# Altium schematic symbol library conn_header_2.54mm_st_smd.SchLib: 46 symbols
Pins are listed as number, name and electrical type; pins without a type are passive.

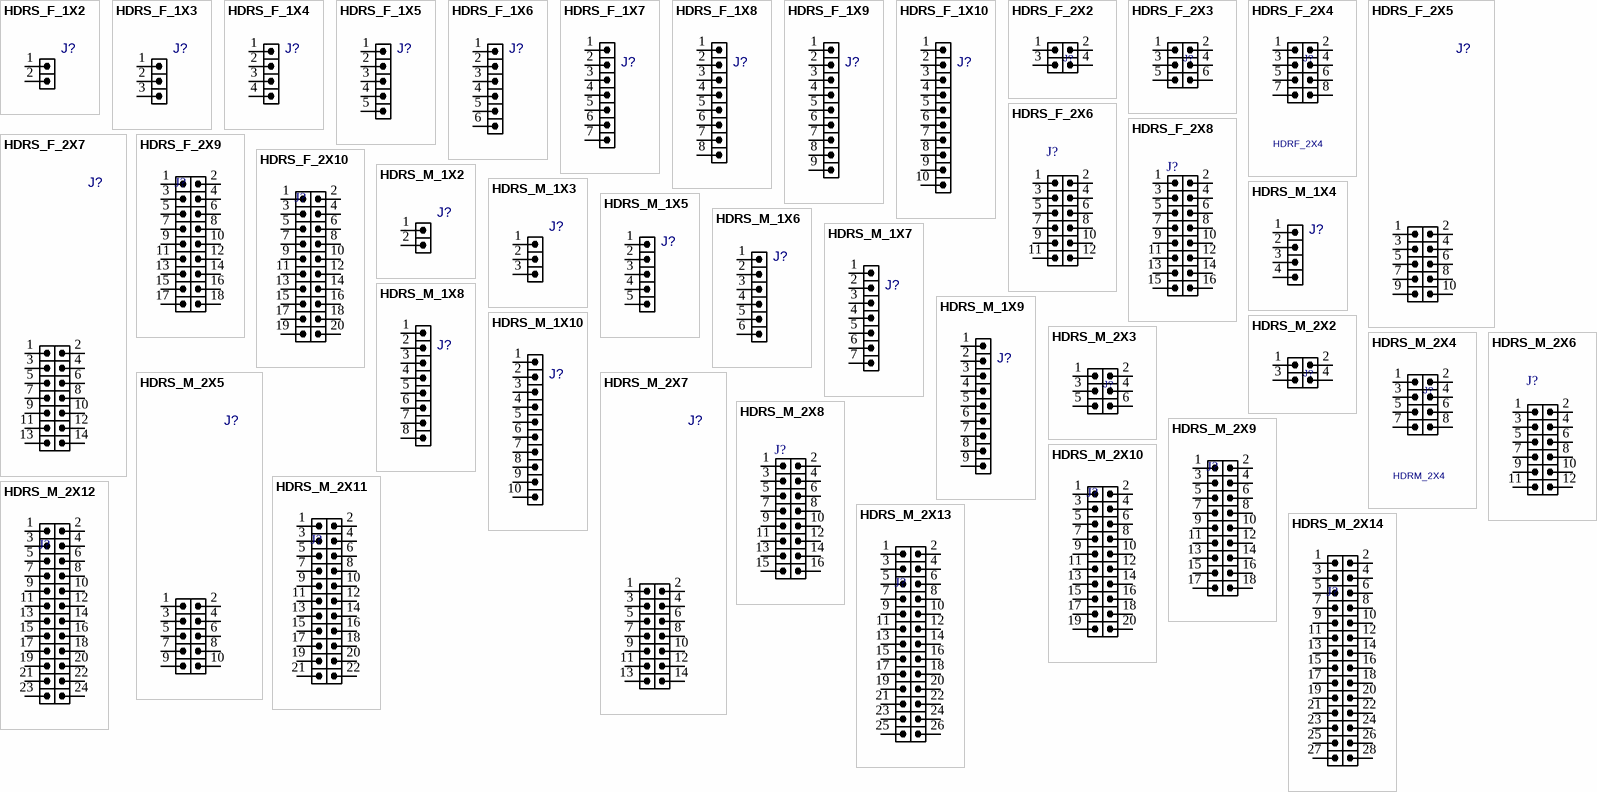
[diagram p0: symbols HDRS_F_1X2 to HDRS_M_2X14]

## HDRS_F_1X2
designator J?, comment HDRF2  (value not drawn)
CONN, HEADER, Female, pitch: 2.54mm, SMD; MANF: MOLEX; DESC: DESCRIPTION; ASSEMBLY: ASSEMBLY; PARAM: PARAM; PRICE: 0.5$; VALUE: HDRF2
footprint HDRS_F_1X2 (HEADER, 2.54mm pitch, straight, SMD)
pins: 1 P1, 2 P2

## HDRS_F_1X3
designator J?, comment HDRF3  (value not drawn)
CONN, HEADER, Female, pitch: 2.54mm, SMD; MANF: MOLEX; DESC: DESCRIPTION; ASSEMBLY: ASSEMBLY; PARAM: PARAM; PRICE: 0.5$; VALUE: HDRF3
footprint HDRS_F_1X3 (HEADER, 2.54mm pitch, straight, SMD)
pins: 1 P1, 2 P2, 3

## HDRS_F_1X4
designator J?, comment HDRF4  (value not drawn)
CONN, HEADER, Female, pitch: 2.54mm, SMD; MANF: MOLEX; DESC: DESCRIPTION; ASSEMBLY: ASSEMBLY; PARAM: PARAM; PRICE: 0.3$; VALUE: HDRF4
footprint HDRS_F_1X4 (HEADER, 2.54mm pitch, straight, SMD)
pins: 1, 2, 3, 4

## HDRS_F_1X5
designator J?, comment HDRF5  (value not drawn)
CONN, HEADER, Female, pitch: 2.54mm, SMD; MANF: Sullins; DESC: DESCRIPTION; ASSEMBLY: ASSEMBLY; PARAM: PARAM; PRICE: PRICE; VALUE: HDRF5
footprint HDRS_F_1X5 (HEADER, 2.54mm pitch, straight, SMD)
pins: 1, 2, 3, 4, 5

## HDRS_F_1X6
designator J?, comment HDRF6  (value not drawn)
CONN, HEADER, Female, pitch: 2.54mm, SMD; MANF: Sullins; DESC: DESCRIPTION; ASSEMBLY: ASSEMBLY; PARAM: PARAM; PRICE: PRICE; VALUE: HDRF6
footprint HDRS_F_1X6 (HEADER, 2.54mm pitch, straight, SMD)
pins: 1, 2, 3, 4, 5, 6

## HDRS_F_1X7
designator J?, comment HDRF7  (value not drawn)
CONN, HEADER, Female, pitch: 2.54mm, SMD; MANF: Sullins; DESC: DESCRIPTION; ASSEMBLY: ASSEMBLY; PARAM: PARAM; PRICE: PRICE; VALUE: HDRF7
footprint HDRS_F_1X7 (HEADER, 2.54mm pitch, straight, SMD)
pins: 1, 2, 3, 4, 5, 6, 7

## HDRS_F_1X8
designator J?, comment HDRF8  (value not drawn)
CONN, HEADER, Female, pitch: 2.54mm, SMD; MANF: Sullins; DESC: DESCRIPTION; ASSEMBLY: ASSEMBLY; PARAM: PARAM; PRICE: PRICE; VALUE: HDRF8
footprint HDRS_F_1X8 (HEADER, 2.54mm pitch, straight, SMD)
pins: 1, 2, 3, 4, 5, 6, 7, 8

## HDRS_F_1X9
designator J?, comment HDRF9  (value not drawn)
CONN, HEADER, Female, pitch: 2.54mm, SMD; MANF: Sullins; DESC: DESCRIPTION; ASSEMBLY: ASSEMBLY; PARAM: PARAM; PRICE: PRICE; VALUE: HDRF9
footprint HDRS_F_1X9 (HEADER, 2.54mm pitch, straight, SMD)
pins: 1, 2, 3, 4, 5, 6, 7, 8, 9

## HDRS_F_1X10
designator J?, comment HDRF10  (value not drawn)
CONN, HEADER, Female, pitch: 2.54mm, SMD; MANF: Sullins; DESC: DESCRIPTION; ASSEMBLY: ASSEMBLY; PARAM: PARAM; PRICE: PRICE; VALUE: HDRF10
footprint HDRS_F_1X10 (HEADER, 2.54mm pitch, straight, SMD)
pins: 1, 2, 3, 4, 5, 6, 7, 8, 9, 10

## HDRS_F_2X2
designator J?, comment HDRF_2X2  (value not drawn)
CONN, HEADER, Female, pitch: 2.54mm, SMD; MANF_P#: MANF_PART#; MANF: MANF; VALUE: HDRF_2X2
footprint HDRS_F_2X2 (HEADER, 2.54mm pitch, straight, SMD)
pins: 1, 2, 3, 4

## HDRS_F_2X3
designator J?, comment HDRF_2X3  (value not drawn)
CONN, HEADER, Female, pitch: 2.54mm, SMD; MANF_P#: MANF_PART#; MANF: MANF; VALUE: HDRF_2X3
footprint HDRS_F_2X3 (HEADER, 2.54mm pitch, straight, SMD)
pins: 1, 2, 3, 4, 5, 6

## HDRS_F_2X4
designator J?, comment HDRF_2X4
CONN, HEADER, Female, pitch: 2.54mm, SMD; MANF_P#: MANF_PART#; MANF: MANF; VALUE: HDRF_2X4
footprint HDRS_F_2X4 (HEADER, 2.54mm pitch, straight, SMD, TSM-105-01-X-DV-A)
pins: 1, 2, 3, 4, 5, 6, 7, 8

## HDRS_F_2X5
designator J?, comment HDRF_2X5  (value not drawn)
CONN, HEADER, Female, pitch: 2.54mm, SMD; MANF: Samtec; DESC: CONN HEADER .100 DUAL; MANF_P#: -; ASSEMBLY: ASSEMBLY; PARAM: PARAM; PRICE: PRICE; VALUE: HDRF_2X5
footprint HDRS_F_2X5 (HEADER, 2.54mm pitch, straight, SMD, TSM-105-01-X-DV-A)
pins: 1, 2, 3, 4, 5, 6, 7, 8, 9, 10

## HDRS_F_2X6
designator J?, comment HDRF_2X6  (value not drawn)
CONN, HEADER, Female, pitch: 2.54mm, SMD; VALUE: HDRF_2X6
footprint HDRS_F_2X6 (HEADER, 2.54mm pitch, straight, SMD)
pins: 1, 2, 3, 4, 5, 6, 7, 8, 9, 10, 11, 12

## HDRS_F_2X7
designator J?, comment HDRF_2X7  (value not drawn)
CONN, HEADER, Female, pitch: 2.54mm, SMD; MANF: Samtec; DESC: CONN HEADER .100 DUAL; ASSEMBLY: ASSEMBLY; PARAM: PARAM; PRICE: PRICE; VALUE: HDRF_2X7
footprint HDRS_F_2X7 (HEADER, 2.54mm pitch, straight, SMD)
pins: 1, 2, 3, 4, 5, 6, 7, 8, 9, 10, 11, 12, 13, 14

## HDRS_F_2X8
designator J?, comment HDRF_2X8  (value not drawn)
CONN, HEADER, Female, pitch: 2.54mm, SMD; VALUE: HDRF_2X8
footprint HDRS_F_2X8 (HEADER, 2.54mm pitch, straight, SMD)
pins: 1, 2, 3, 4, 5, 6, 7, 8, 9, 10, 11, 12, 13, 14, 15, 16

## HDRS_F_2X9
designator J?, comment HDRF_2X9  (value not drawn)
CONN, HEADER, Female, pitch: 2.54mm, SMD; VALUE: HDRF_2X9
footprint HDRS_F_2X9 (HEADER, 2.54mm pitch, straight, SMD)
pins: 1, 2, 3, 4, 5, 6, 7, 8, 9, 10, 11, 12, 13, 14, 15, 16, 17, 18

## HDRS_F_2X10
designator J?, comment HDRF_2X10  (value not drawn)
CONN, HEADER, Female, pitch: 2.54mm, SMD; VALUE: HDRF_2X10
footprint HDRS_F_2X10 (HEADER, 2.54mm pitch, straight, SMD)
pins: 1, 2, 3, 4, 5, 6, 7, 8, 9, 10, 11, 12, 13, 14, 15, 16, 17, 18, 19, 20

## HDRS_M_1X2
designator J?, comment HDRM2  (value not drawn)
CONN, HEADER, Male, pitch: 2.54mm, 2POS, SMD; MANF_P#: 87898-0204; MANF: MOLEX; DESC: DESCRIPTION; ASSEMBLY: ASSEMBLY; PARAM: PARAM; PRICE: 0.5$; VALUE: HDRM2
footprint HDRS_M_1X2
pins: 1 P1, 2 P2

## HDRS_M_1X3
designator J?, comment HDRM3  (value not drawn)
CONN, HEADER, Male, pitch: 2.54mm, 3POS, SMD; MANF_P#: 87898-0304; MANF: MOLEX; DESC: DESCRIPTION; ASSEMBLY: ASSEMBLY; PARAM: PARAM; PRICE: 0.5$; VALUE: HDRM3
footprint HDRS_M_1X3 (Connector; Header; 3 Position, SMD)
pins: 1 P1, 2 P2, 3

## HDRS_M_1X4
designator J?, comment HDRM4  (value not drawn)
CONN, HEADER, Male, pitch: 2.54mm, 4POS, SMD; MANF_P#: 87898-0426; MANF: MOLEX; DESC: DESCRIPTION; ASSEMBLY: ASSEMBLY; PARAM: PARAM; PRICE: 0.3$; VALUE: HDRM4
footprint HDRS_M_1X4 (Connector; Header; 4 Position, SMD)
pins: 1, 2, 3, 4

## HDRS_M_1X5
designator J?, comment HDRM5  (value not drawn)
CONN, HEADER, Male, pitch: 2.54mm, 5POS, SMD; MANF_P#: PBC36SAAN; MANF: Sullins; DESC: DESCRIPTION; ASSEMBLY: ASSEMBLY; PARAM: PARAM; PRICE: PRICE; VALUE: HDRM5
footprint HDRS_M_1X5 (Connector; Header; 5 Position, SMD)
pins: 1, 2, 3, 4, 5

## HDRS_M_1X6
designator J?, comment HDRM6  (value not drawn)
CONN, HEADER, Male, pitch: 2.54mm, 6POS, SMD; MANF_P#: PBC36SAAN; MANF: Sullins; DESC: DESCRIPTION; ASSEMBLY: ASSEMBLY; PARAM: PARAM; PRICE: PRICE; VALUE: HDRM6
footprint HDRS_M_1X6 (Connector; Header; 6 Position, SMD)
pins: 1, 2, 3, 4, 5, 6

## HDRS_M_1X7
designator J?, comment HDRM7  (value not drawn)
CONN, HEADER, Male, pitch: 2.54mm, 7POS, SMD; MANF_P#: PBC36SAAN; MANF: Sullins; DESC: DESCRIPTION; ASSEMBLY: ASSEMBLY; PARAM: PARAM; PRICE: PRICE; VALUE: HDRM7
footprint HDRS_M_1X7 (Connector; Header; 7 Position, SMD)
pins: 1, 2, 3, 4, 5, 6, 7

## HDRS_M_1X8
designator J?, comment HDRM8  (value not drawn)
CONN, HEADER, Male, pitch: 2.54mm, 8POS, SMD; MANF_P#: PBC36SAAN; MANF: Sullins; DESC: DESCRIPTION; ASSEMBLY: ASSEMBLY; PARAM: PARAM; PRICE: PRICE; VALUE: HDRM8
footprint HDRS_M_1X8 (Connector; Header; 8 Position, SMD)
pins: 1, 2, 3, 4, 5, 6, 7, 8

## HDRS_M_1X9
designator J?, comment HDRM9  (value not drawn)
CONN, HEADER, Male, pitch: 2.54mm, SMD; MANF_P#: PBC36SAAN; MANF: Sullins; DESC: DESCRIPTION; ASSEMBLY: ASSEMBLY; PARAM: PARAM; PRICE: PRICE; VALUE: HDRM9
footprint HDRS_M_1X9 (HEADER, 2.54mm pitch, straight, SMD)
pins: 1, 2, 3, 4, 5, 6, 7, 8, 9

## HDRS_M_1X10
designator J?, comment HDRM10  (value not drawn)
CONN, HEADER, Male, pitch: 2.54mm, SMD; MANF_P#: PBC36SAAN; MANF: Sullins; DESC: DESCRIPTION; ASSEMBLY: ASSEMBLY; PARAM: PARAM; PRICE: PRICE; VALUE: HDRM10
footprint HDRS_M_1X10 (HEADER, 2.54mm pitch, straight, SMD)
pins: 1, 2, 3, 4, 5, 6, 7, 8, 9, 10

## HDRS_M_2X2
designator J?, comment HDRM_2X2  (value not drawn)
CONN, HEADER, Male, pitch: 2.54mm, 4POS, SMD; MANF_P#: MANF_PART#; MANF: MANF; VALUE: HDRM_2X2
footprint HDRS_M_2X2
pins: 1, 2, 3, 4

## HDRS_M_2X3
designator J?, comment HDRM_2X3  (value not drawn)
CONN, HEADER, Male, pitch: 2.54mm, 6POS, SMD; MANF_P#: MANF_PART#; MANF: MANF; VALUE: HDRM_2X3
footprint HDRS_M_2X3 (Connector; Header; 3x2 Position, SMD)
pins: 1, 2, 3, 4, 5, 6

## HDRS_M_2X4
designator J?, comment HDRM_2X4
CONN, HEADER, Male, pitch: 2.54mm, 8POS; MANF_P#: MANF_PART#; MANF: MANF; VALUE: HDRM_2X4
footprint HDRS_M_2X4 (HEADER, 2.54mm pitch, straight, SMD, TSM-105-01-X-DV-A)
pins: 1, 2, 3, 4, 5, 6, 7, 8

## HDRS_M_2X5
designator J?, comment HDRM_2X5  (value not drawn)
CONN, HEADER, Male, pitch: 2.54mm, 10POS, SMD; MANF: Samtec; DESC: CONN HEADER .100 DUAL; MANF_P#: -; ASSEMBLY: ASSEMBLY; PARAM: PARAM; PRICE: PRICE; VALUE: HDRM_2X5
footprint HDRS_M_2X5 (Male Header 2X05 with 2.54 mm SMD, TSM-105-01-X-DV-A)
footprint HDRS_M_2X5_C (Footprint not found)
pins: 1, 2, 3, 4, 5, 6, 7, 8, 9, 10

## HDRS_M_2X6
designator J?, comment HDRM_2X6  (value not drawn)
CONN, HEADER, Male, pitch: 2.54mm, 12POS; VALUE: HDRM_2X6
footprint HDRS_M_2X6 (HEADER, 2.54mm pitch, straight, SMD)
pins: 1, 2, 3, 4, 5, 6, 7, 8, 9, 10, 11, 12

## HDRS_M_2X7
designator J?, comment HDRM_2X7  (value not drawn)
CONN, HEADER, Male, pitch: 2.54mm, 14POS, SMD; MANF_P#: MTLW-107-07-G-D-265; MANF: Samtec; DESC: CONN HEADER .100 DUAL; ASSEMBLY: ASSEMBLY; PARAM: PARAM; PRICE: PRICE; VALUE: HDRM_2X7
footprint HDRS_M_2X7
pins: 1, 2, 3, 4, 5, 6, 7, 8, 9, 10, 11, 12, 13, 14

## HDRS_M_2X8
designator J?, comment HDRM_2X8  (value not drawn)
CONN, HEADER, Male, pitch: 2.54mm, 16POS; VALUE: HDRM_2X8
footprint HDRS_M_2X8 (HEADER, 2.54mm pitch, straight, SMD)
pins: 1, 2, 3, 4, 5, 6, 7, 8, 9, 10, 11, 12, 13, 14, 15, 16

## HDRS_M_2X9
designator J?, comment HDRM_2X9  (value not drawn)
CONN, HEADER, Male, pitch: 2.54mm, 18POS; VALUE: HDRM_2X9
footprint HDRS_M_2X9 (HEADER, 2.54mm pitch, straight, SMD)
pins: 1, 2, 3, 4, 5, 6, 7, 8, 9, 10, 11, 12, 13, 14, 15, 16, 17, 18

## HDRS_M_2X10
designator J?, comment HDRM_2X10  (value not drawn)
CONN, HEADER, Male, pitch: 2.54mm, 20POS; VALUE: HDRM_2X10
footprint HDRS_M_2X10 (HEADER, 2.54mm pitch, straight, SMD)
pins: 1, 2, 3, 4, 5, 6, 7, 8, 9, 10, 11, 12, 13, 14, 15, 16, 17, 18, 19, 20

## HDRS_M_2X11
designator J?, comment HDRM_2X11  (value not drawn)
CONN, HEADER, Male, pitch: 2.54mm, 22POS; VALUE: HDRM_2X11
footprint HDRS_M_2X11 (HEADER, 2.54mm pitch, straight, SMD)
pins: 1, 2, 3, 4, 5, 6, 7, 8, 9, 10, 11, 12, 13, 14, 15, 16, 17, 18, 19, 20, 21, 22

## HDRS_M_2X12
designator J?, comment HDRM_2X12  (value not drawn)
CONN, HEADER, Male, pitch: 2.54mm, 24POS; VALUE: HDRM_2X12
footprint HDRS_M_2X12 (HEADER, 2.54mm pitch, straight, SMD)
pins: 1, 2, 3, 4, 5, 6, 7, 8, 9, 10, 11, 12, 13, 14, 15, 16, 17, 18, 19, 20, 21, 22, 23, 24

## HDRS_M_2X13
designator J?, comment HDRM_2X13  (value not drawn)
CONN, HEADER, Male, pitch: 2.54mm, 26POS; VALUE: HDRM_2X13
footprint HDRS_M_2X13 (HEADER, 2.54mm pitch, straight, SMD)
pins: 1, 2, 3, 4, 5, 6, 7, 8, 9, 10, 11, 12, 13, 14, 15, 16, 17, 18, 19, 20, 21, 22, 23, 24, 25, 26

## HDRS_M_2X14
designator J?, comment HDRM_2X14  (value not drawn)
CONN, HEADER, Male, pitch: 2.54mm, 28POS; VALUE: HDRM_2X14
footprint HDRS_M_2X14 (HEADER, 2.54mm pitch, straight, SMD)
pins: 1, 2, 3, 4, 5, 6, 7, 8, 9, 10, 11, 12, 13, 14, 15, 16, 17, 18, 19, 20, 21, 22, 23, 24, 25, 26, 27, 28

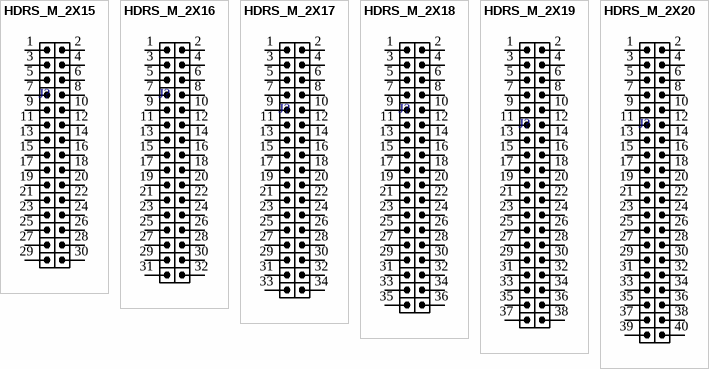
[diagram p1: symbols HDRS_M_2X15 to HDRS_M_2X20]

## HDRS_M_2X15
designator J?, comment HDRM_2X15  (value not drawn)
CONN, HEADER, Male, pitch: 2.54mm, 30POS; VALUE: HDRM_2X15
footprint HDRS_M_2X15 (HEADER, 2.54mm pitch, straight, SMD)
pins: 1, 2, 3, 4, 5, 6, 7, 8, 9, 10, 11, 12, 13, 14, 15, 16, 17, 18, 19, 20, 21, 22, 23, 24, 25, 26, 27, 28, 29, 30

## HDRS_M_2X16
designator J?, comment HDRM_2X16  (value not drawn)
CONN, HEADER, Male, pitch: 2.54mm, 32POS; VALUE: HDRM_2X16
footprint HDRS_M_2X16 (HEADER, 2.54mm pitch, straight, SMD)
pins: 1, 2, 3, 4, 5, 6, 7, 8, 9, 10, 11, 12, 13, 14, 15, 16, 17, 18, 19, 20, 21, 22, 23, 24, 25, 26, 27, 28, 29, 30, 31, 32

## HDRS_M_2X17
designator J?, comment HDRM_2X17  (value not drawn)
CONN, HEADER, Male, pitch: 2.54mm, 34POS; VALUE: HDRM_2X17
footprint HDRS_M_2X17 (HEADER, 2.54mm pitch, straight, SMD)
pins: 1, 2, 3, 4, 5, 6, 7, 8, 9, 10, 11, 12, 13, 14, 15, 16, 17, 18, 19, 20, 21, 22, 23, 24, 25, 26, 27, 28, 29, 30, 31, 32, 33, 34

## HDRS_M_2X18
designator J?, comment HDRM_2X18  (value not drawn)
CONN, HEADER, Male, pitch: 2.54mm, 36POS; VALUE: HDRM_2X18
footprint HDRS_M_2X18 (HEADER, 2.54mm pitch, straight, SMD)
pins: 1, 2, 3, 4, 5, 6, 7, 8, 9, 10, 11, 12, 13, 14, 15, 16, 17, 18, 19, 20, 21, 22, 23, 24, 25, 26, 27, 28, 29, 30, 31, 32, 33, 34, 35, 36

## HDRS_M_2X19
designator J?, comment HDRM_2X19  (value not drawn)
CONN, HEADER, Male, pitch: 2.54mm, 38POS; VALUE: HDRM_2X19
footprint HDRS_M_2X19 (HEADER, 2.54mm pitch, straight, SMD)
pins: 1, 2, 3, 4, 5, 6, 7, 8, 9, 10, 11, 12, 13, 14, 15, 16, 17, 18, 19, 20, 21, 22, 23, 24, 25, 26, 27, 28, 29, 30, 31, 32, 33, 34, 35, 36, 37, 38

## HDRS_M_2X20
designator J?, comment HDRM_2X20  (value not drawn)
CONN, HEADER, Male, pitch: 2.54mm, 40POS; VALUE: HDRM_2X20
footprint HDRS_M_2X20 (HEADER, 2.54mm pitch, straight, SMD)
pins: 1, 2, 3, 4, 5, 6, 7, 8, 9, 10, 11, 12, 13, 14, 15, 16, 17, 18, 19, 20, 21, 22, 23, 24, 25, 26, 27, 28, 29, 30, 31, 32, 33, 34, 35, 36, 37, 38, 39, 40